# EAGLE library part ENDINGS_LINK (library ElectricNoodleBox)
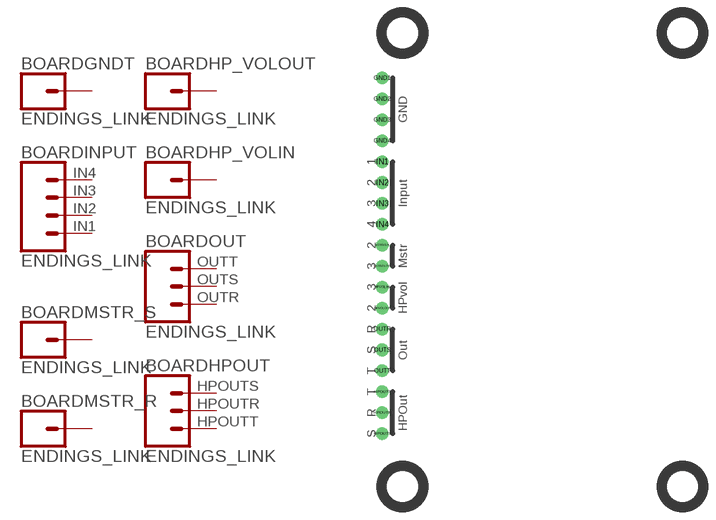
[diagram p22: symbol with the pads of ENDINGS; footprint ENDINGS]

Designator prefix BOARD; gates INPUT=CONN_04 MSTR_S=CONN_01 MSTR_R=CONN_01 HP_VOLOUT=CONN_01 HP_VOLIN=CONN_01 OUT=CONN_03 HPOUT=CONN_03 GNDT=CONN_01

## ENDINGS_LINK  [ENDINGS]
GND1  GNDT:1  pas
GND2  GNDT:1  pas
GND3  GNDT:1  pas
GND4  GNDT:1  pas
HPOUTR  HPOUT:2  pas
HPOUTS  HPOUT:3  pas
HPOUTT  HPOUT:1  pas
HPVOLIN  HP_VOLIN:1  pas
HPVOLOUT  HP_VOLOUT:1  pas
IN1  INPUT:1  pas
IN2  INPUT:2  pas
IN3  INPUT:3  pas
IN4  INPUT:4  pas
MSTRVOLIN  MSTR_R:1  pas
MSTRVOLOUT  MSTR_S:1  pas
OUTR  OUT:1  pas
OUTS  OUT:2  pas
OUTT  OUT:3  pas

## Footprint ENDINGS (pad centres in mm)
drill 1.016: GND1 2.54,54.61; GND2 2.54,52.07; GND3 2.54,49.53; GND4 2.54,46.99; HPOUTR 2.54,13.97; HPOUTS 2.54,11.43; HPOUTT 2.54,16.51; HPVOLIN 2.54,29.21; HPVOLOUT 2.54,26.67; IN1 2.54,44.45; IN2 2.54,41.91; IN3 2.54,39.37; IN4 2.54,36.83; MSTRVOLIN 2.54,34.29; MSTRVOLOUT 2.54,31.75; OUTR 2.54,24.13; OUTS 2.54,21.59; OUTT 2.54,19.05
hole 4 at 5,5
hole 4 at 39,5
hole 4 at 39,60
hole 4 at 5,60